# Altium schematic symbol library lib1.SchLib: 8 symbols
Pins are listed as number, name and electrical type; pins without a type are passive.

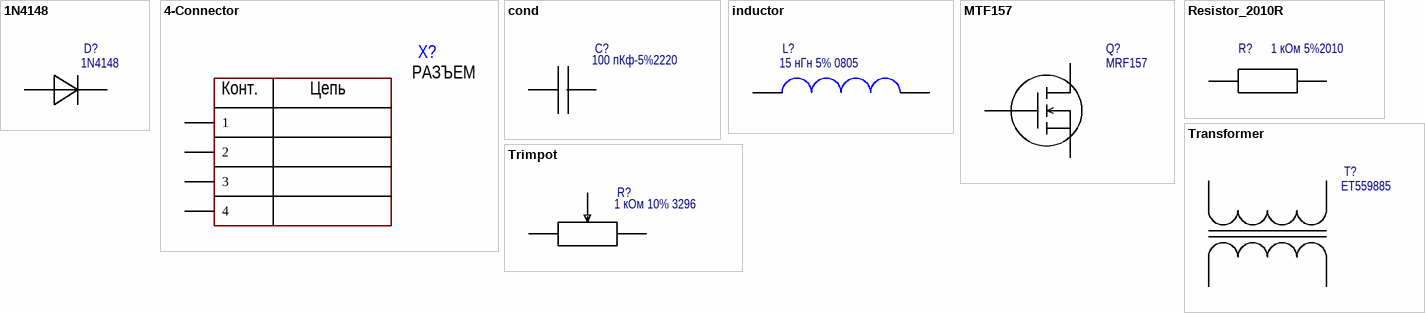
[diagram p0: symbols 1N4148 to Trimpot]

## 1N4148
designator D?
Kind: Diode; Href: *; Manufacturer: *; PartNumber: 1N4148
footprint DIODE
pins: 0 +, 1 -

## 4-Connector
designator X?, comment РАЗЪЕМ
PartNumber: WJ0601-06; Manufacturer: WANJIE Electronic; Href: https://klemmnik.com/shop/razemnye-klemmy-mcs/na-cabel-87/wj0601-0604p/; Kind: РАЗЪЕМ
footprint CON: WJ06-04P
pins: 1, 2, 3 (power), 4 (power)
text: Конт.; Цепь

## cond
designator C?, comment 100 пКф-5%2220
Kind: Capacitor; Href: *; PartNumber: *; Manufacturer: *; Value: 100 пКф-5%2220
footprint CAP_0805
footprint CAP_2220
pins: 0, 1

## inductor
designator L?, comment 15 нГн 5% 0805
Manufactured: Murata Electronics; PartNumber: LQW2BAS15NJ00L; Kind: Inductors; Href: https://www.chipdip.ru/product0/8005346407; Value: 15 нГн 5% 0805
footprint INDUCTOR_0805
pins: 0, 1

## MTF157
designator Q?, comment MRF157
Kind: Transistor; Manufacturer: *; Href: *; PartNumber: MRF157
footprint MOSFET
pins: 1 Drain, 2 Gate, 3 Source

## Resistor_2010R
designator R?, comment 1 кОм 5%2010
Kind: Resistor; Manufacturer: *; Href: *; PartNumber: *; Value: 1 кОм 5%2010
footprint Resistor_2010
pins: 1, 2

## Transformer
designator T?, comment ET559885
Manufacturer: ПО Электротехник; Kind: Transformer; PartNumber: ET559885; Href: https://www.chipdip.ru/product/et559885
footprint CON: WJ06-04P
pins: 1, 2, 3, 4

## Trimpot
designator R?, comment 1 кОм 10% 3296
Manufacturer: Bourns; PartNumber: 3296X-1-102LF; Kind: Trimpot; Href: https://www.chipdip.ru/product0/8038726753; Value: 1 кОм 10% 3296
footprint TRIMPOT
pins: 1 HIGH, 2 LOW, 3 WIPER (in) "Информационный вход Х6"